# EAGLE library part RJHSE5380 (library connector)
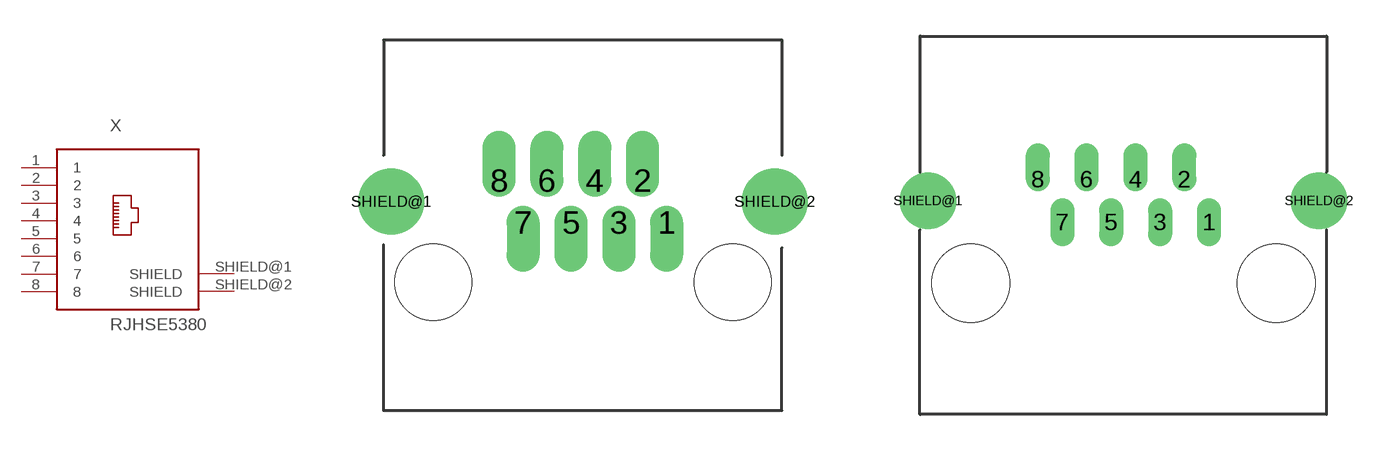
[diagram p0: symbol with the pads of RJHSE5380; footprints RJHSE5380, RJHSE5380-MANUAL-ETCH]

Designator prefix X

## RJHSE5380  [RJHSE5380]
1  1
2  2
3  3
4  4
5  5
6  6
7  7
8  8
SHIELD@1  SHIELD
SHIELD@2  SHIELD

## RJHSE5380MANUAL-ETCH  [RJHSE5380-MANUAL-ETCH]
Pads as for RJHSE5380

## Footprint RJHSE5380 (pad centres in mm)
drill 0.89 pad 1.25 offset: 1 7.11,-1.78; 2 6.09,0; 3 5.08,-1.78; 4 4.06,0; 5 3.05,-1.78; 6 2.03,0; 7 1.02,-1.78; 8 0,0
drill 1.57 pad 2.8: SHIELD@1 -4.57,-0.89; SHIELD@2 11.69,-0.89
hole 3.25 at -2.79,-4.32
hole 3.25 at 9.91,-4.32

## Footprint RJHSE5380-MANUAL-ETCH (pad centres in mm)
drill 0.5 long: 1 7.11,-1.78; 3 5.08,-1.78; 5 3.05,-1.78; 7 1.02,-1.78
drill 0.5 offset: 2 6.09,0; 4 4.06,0; 6 2.03,0; 8 0,0
drill 1.57: SHIELD@1 -4.57,-0.89; SHIELD@2 11.69,-0.89
hole 3.25 at -2.79,-4.32
hole 3.25 at 9.91,-4.32